# Altium schematic symbol library ADAR1000ACCZN.SchLib: 1 symbol
Pins are listed as number, name and electrical type; pins without a type are passive.

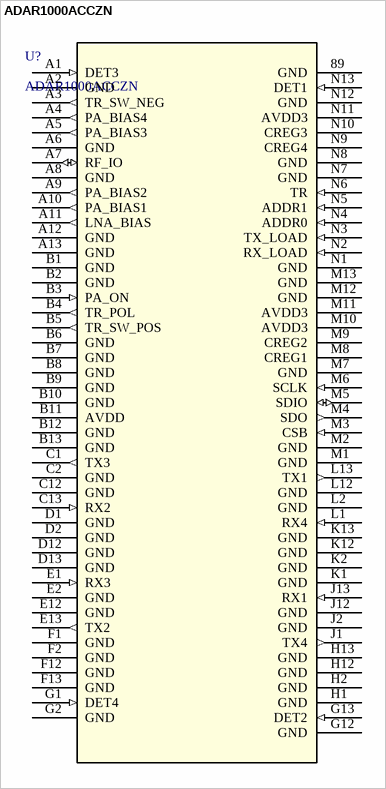
[diagram p0: symbol ADAR1000ACCZN]

## ADAR1000ACCZN
designator U?
8 GHz to 16 GHz, 4-Channel, X Band and Ku Band Beamformer; Manufacturer_Name: Analog Devices Inc; Type: RF; Copyright: Copyright (C) 2025 Ultra Librarian. All rights reserved.; Manufacturer_Part_Number: ADAR1000ACCZN; RefDes: RefDes
footprint CC-88-1_ADI
pins: 89 GND (power), A1 DET3 (in), A2 GND (power), A3 TR_SW_NEG (out), A4 PA_BIAS4 (out), A5 PA_BIAS3 (out), A6 GND (power), A7 RF_IO (io), A8 GND (power), A9 PA_BIAS2 (out), A10 PA_BIAS1 (out), A11 LNA_BIAS (out), A12 GND (power), A13 GND (power), B1 GND (power), B2 GND (power), B3 PA_ON (in), B4 TR_POL (out), B5 TR_SW_POS (out), B6 GND (power), B7 GND (power), B8 GND (power), B9 GND (power), B10 GND (power), B11 AVDD (power), B12 GND (power), B13 GND (power), C1 TX3 (out), C2 GND (power), C12 GND (power), C13 RX2 (in), D1 GND (power), D2 GND (power), D12 GND (power), D13 GND (power), E1 RX3 (in), E2 GND (power), E12 GND (power), E13 TX2 (out), F1 GND (power), F2 GND (power), F12 GND (power), F13 GND (power), G1 DET4 (in), G2 GND (power), G12 GND (power), G13 DET2 (in), H1 GND (power), H2 GND (power), H12 GND (power), H13 GND (power), J1 TX4 (out), J2 GND (power), J12 GND (power), J13 RX1 (in), K1 GND (power), K2 GND (power), K12 GND (power), K13 GND (power), L1 RX4 (in), L2 GND (power), L12 GND (power), L13 TX1 (out), M1 GND (power), M2 GND (power), M3 CSB (in), M4 SDO (out), M5 SDIO (io), M6 SCLK (in), M7 GND (power), M8 CREG1 (power), M9 CREG2 (power), M10 AVDD3 (power), M11 AVDD3 (power), M12 GND (power), M13 GND (power), N1 GND (power), N2 RX_LOAD (in), N3 TX_LOAD (in), N4 ADDR0 (in), N5 ADDR1 (in), N6 TR (in), N7 GND (power), N8 GND (power), N9 CREG4 (power), N10 CREG3 (power), N11 AVDD3 (power), N12 GND (power), N13 DET1 (in)